# EAGLE library part PIC16F18313 (library _MyComponents)
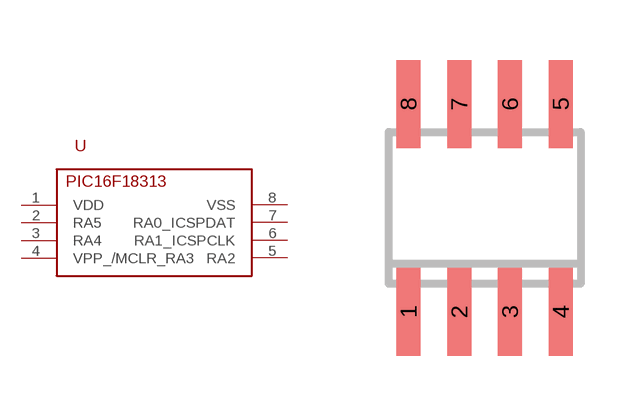
[diagram p18: symbol with the pads of SO8; footprint SO8]

Designator prefix U

## PIC16F18313  [SO8]
1  VDD
2  RA5
3  RA4
4  VPP_/MCLR_RA3
5  RA2
6  RA1_ICSPCLK
7  RA0_ICSPDAT
8  VSS

## Footprint SO8 (pad centres in mm)
8-Lead Small Outline IC (SO-8) Source: http://www.analog.com/UploadedFiles/Data_Sheets/703465986AD8611_2_0.pdf
smd 0.6 x 2.2: 1 -1.905,-2.6; 2 -0.635,-2.6; 3 0.635,-2.6; 4 1.905,-2.6; 5 1.905,2.6; 6 0.635,2.6; 7 -0.635,2.6; 8 -1.905,2.6